# Altium schematic symbol library CGGBPP25P2PAP02.SchLib: 2 symbols
Pins are listed as number, name and electrical type; pins without a type are passive.

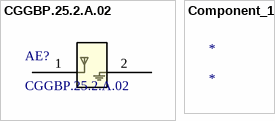
[diagram p0: symbols CGGBP.25.2.A.02 to Component_1]

## CGGBP.25.2.A.02
designator AE?
No Description Available; Manufacturer_Name: Taoglas Limited; Type: RF; Copyright: Copyright (C) 2025 Ultra Librarian. All rights reserved.; Manufacturer_Part_Number: CGGBP.25.2.A.02; RefDes: RefDes
footprint ANT_CGGBP.25.2.A.02_TAL
pins: 1, 2

## Component_1
designator *